# Altium footprint library SignalCommunications.PCBLIB: 466 footprints (part 5 of 30)
Each footprint in its own frame and in the unit in brackets; x right, y up, seen from the top. Pads: shape width x height; smd on the part's side, far side on the other; paste and mask are expansions set on the pad; w line width, h text height; cw(c..) or ccw(c..) is an arc to the next point about the centre after c.
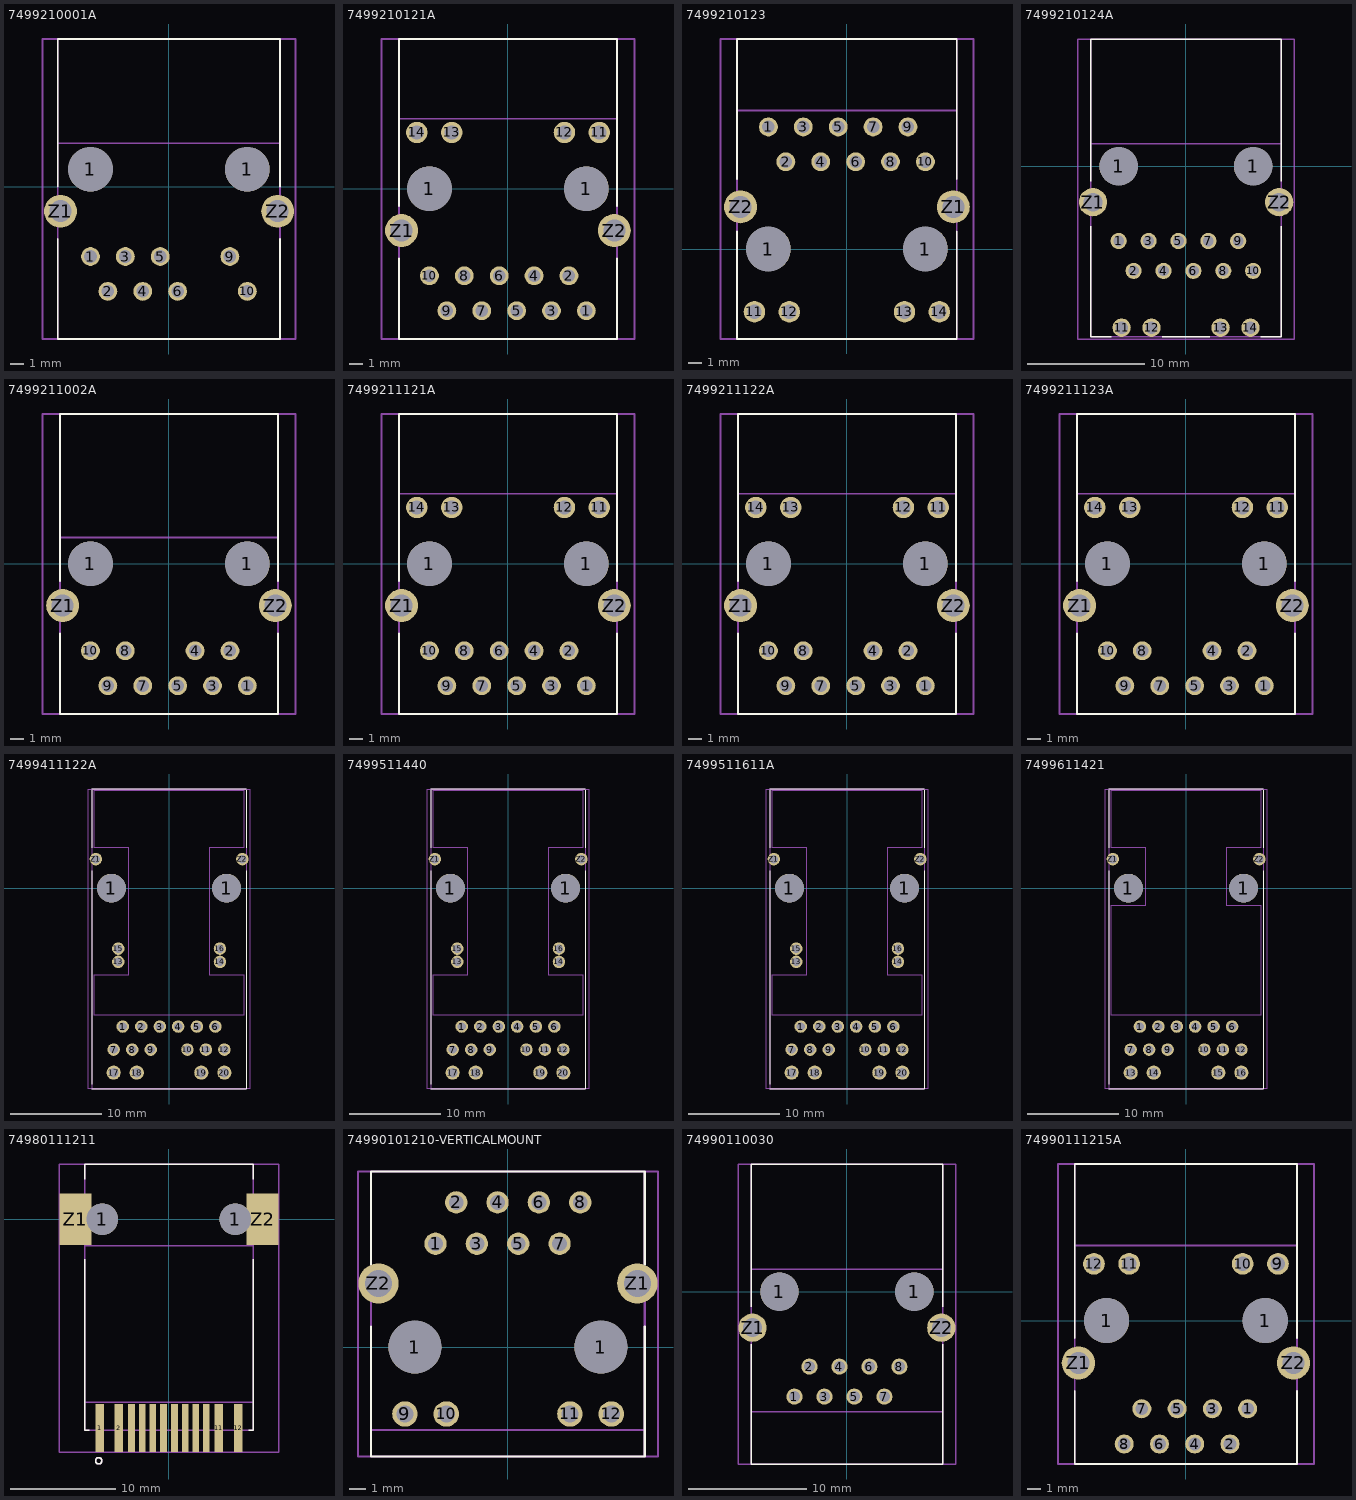
[diagram p4: the footprints below, top view; thin cyan lines are the x and y axes]

## 7499210001A [mil]
pads (12):
  round 54 hole 36: 1(-225,-200) 2(-175,-300) 3(-125,-200) 4(-75,-300) 5(-25,-200) 6(25,-300) 9(175,-200) 10(225,-300)
  round 128 hole 128: 1(-225,50) 1(225,50)
  round 94.5 hole 63: Z1(-311.02,-70.08) Z2(312,-70.08)
Top Overlay:
  lines w5: -318.9,-150 -318.9,-436.61 319,-436.61 319,-150 ; -318.9,0 -318.9,424 319,424 319,0
Mechanical 10:
  lines w5: -318.9,125 -318.9,424 319,424 319,125 -318.9,125
Mechanical 16:
  lines w5: -318.9,-436.61 -318.9,424 319,424 319,-436.61 -318.9,-436.61
  text "1" at -275,-175 h37.2
  text "9" at 225,-175 h37.2
  text "10" at 250,-350 h37.2
  text "2" at -225,-350 h37.2
Mechanical 27:
  lines w5: -362.5,-436.61 363,-436.61 363,424 -362.5,424 -362.5,-436.61

## 7499210121A [mil]
pads (18):
  round 128 hole 128: 1(-225,0) 1(225,0)
  round 54 hole 36: 1(225,-350) 2(175,-250) 3(125,-350) 4(75,-250) 5(25,-350) 6(-25,-250) 7(-75,-350) 8(-125,-250) 9(-175,-350) 10(-225,-250)
  round 61.5 hole 41: 11(262,161) 12(162,161) 13(-161.02,161) 14(-261.02,161)
  round 94.5 hole 63: Z1(-304.92,-120.08) Z2(305,-120.08)
Top Overlay:
  lines w5: -312.6,-200 -312.6,-431.1 313,-431.1 313,-200 ; -312.6,-50 -312.6,429 313,429 313,-50
Mechanical 10:
  lines w5: -312.6,200 -312.6,429 313,429 313,200 -312.6,200
Mechanical 16:
  lines w5: -312.6,-431.1 -312.6,429 313,429 313,-431.1 -312.6,-431.1
  text "1" at 250,-325 h49.6
  text "10" at -300,-225 h49.6
Mechanical 27:
  lines w5: -362.5,-431.1 363,-431.1 363,429 -362.5,429 -362.5,-431.1

## 7499210123 [mil]
pads (18):
  round 128 hole 128: 1(-225,0) 1(225,0)
  round 54 hole 36: 1(-225,350) 2(-175,250) 3(-125,350) 4(-75,250) 5(-25,350) 6(25,250) 7(75,350) 8(125,250) 9(175,350) 10(225,250)
  round 61.5 hole 41: 11(-264.96,-179.92) 12(-164.96,-179.92) 13(165,-179.92) 14(265,-179.92)
  round 94.5 hole 63: Z1(305,121) Z2(-304.92,121)
Top Overlay:
  lines w5: -314.96,50 -314.96,-257.87 315,-257.87 315,50 ; -314.96,200 -314.96,602 315,602 315,200
Mechanical 10:
  lines w5: -314.96,397 -314.96,602 315,602 315,397 -314.96,397
Mechanical 16:
  lines w5: -314.96,-257.87 -314.96,602 315,602 315,-257.87 -314.96,-257.87
  text "1" at -250,325 h49.6
  text "10" at 300,225 h49.6
Mechanical 27:
  lines w5: -362.5,-257.87 363,-257.87 363,602 -362.5,602 -362.5,-257.87

## 7499210124A [mil]
pads (18):
  round 54 hole 36: 1(-225,-250) 2(-175,-350) 3(-125,-250) 4(-75,-350) 5(-25,-250) 6(25,-350) 7(75,-250) 8(125,-350) 9(175,-250) 10(225,-350)
  round 128 hole 128: 1(-225,0) 1(225,0)
  round 61.5 hole 41: 11(-215.16,-540.16) 12(-115.16,-540.16) 13(116,-540.16) 14(216,-540.16)
  round 94.5 hole 63: Z1(-311.02,-120.08) Z2(312,-120.08)
Top Overlay:
  lines w5: -318.9,-200 -318.9,-570.87 -250,-570.87 ; -318.9,-50 -318.9,426 319,426 319,-50 ; -78.74,-570.87 79,-570.87 ; 250,-570.87 319,-570.87 319,-200
Mechanical 10:
  lines w5: -318.9,75 -318.9,426 319,426 319,75 -318.9,75
Mechanical 16:
  lines w5: -318.9,-570.87 -318.9,426 319,426 319,-570.87 -318.9,-570.87
  text "1" at -275,-250 h37.2
  text "9" at 225,-225 h37.2
  text "10" at 250,-400 h37.2
  text "2" at -225,-400 h37.2
Mechanical 27:
  lines w5: -325,425 -318.9,426 ; -362.5,-578.05 363,-578.05 363,426 -362.5,426 -362.5,-578.05

## 7499211002A [mil]
pads (13):
  round 128 hole 128: 1(-225,0) 1(225,0)
  round 54 hole 36: 1(225,-350) 2(175,-250) 3(125,-350) 4(75,-250) 5(25,-350) 7(-75,-350) 8(-125,-250) 9(-175,-350) 10(-225,-250)
  round 94.5 hole 63: Z1(-304.72,-120.08) Z2(305,-120.08)
Top Overlay:
  lines w5: -312.6,-200 -312.6,-431.1 313,-431.1 313,-200 ; -312.6,-50 -312.6,429 313,429 313,-50
Mechanical 10:
  lines w5: -312.6,75 -312.6,429 313,429 313,75 -312.6,75
Mechanical 16:
  lines w5: -312.6,-431.1 -312.6,429 313,429 313,-431.1 -312.6,-431.1
  text "1" at 275,-325 h49.6
  text "10" at -300,-225 h49.6
Mechanical 27:
  lines w5: -362.5,-431.1 363,-431.1 363,429 -362.5,429 -362.5,-431.1

## 7499211121A [mil]
pads (18):
  round 128 hole 128: 1(-225,0) 1(225,0)
  round 54 hole 36: 1(225,-350) 2(175,-250) 3(125,-350) 4(75,-250) 5(25,-350) 6(-25,-250) 7(-75,-350) 8(-125,-250) 9(-175,-350) 10(-225,-250)
  round 61.5 hole 41: 11(262,161) 12(162,161) 13(-161.02,161) 14(-261.02,161)
  round 94.5 hole 63: Z1(-304.92,-120.08) Z2(305,-120.08)
Top Overlay:
  lines w5: -312.6,-200 -312.6,-431.1 313,-431.1 313,-200 ; -312.6,-50 -312.6,429 313,429 313,-50
Mechanical 10:
  lines w5: -312.6,200 -312.6,429 313,429 313,200 -312.6,200
Mechanical 16:
  lines w5: -312.6,-431.1 -312.6,429 313,429 313,-431.1 -312.6,-431.1
  text "1" at 250,-325 h49.6
  text "10" at -300,-225 h49.6
Mechanical 27:
  lines w5: -362.5,-431.1 363,-431.1 363,429 -362.5,429 -362.5,-431.1

## 7499211122A [mil]
pads (17):
  round 128 hole 128: 1(-225,0) 1(225,0)
  round 54 hole 36: 1(225,-350) 2(175,-250) 3(125,-350) 4(75,-250) 5(25,-350) 7(-75,-350) 8(-125,-250) 9(-175,-350) 10(-225,-250)
  round 61.5 hole 41: 11(262,161) 12(162,161) 13(-161.02,161) 14(-261.02,161)
  round 94.5 hole 63: Z1(-304.92,-120.08) Z2(305,-120.08)
Top Overlay:
  lines w5: -312.6,-200 -312.6,-431.1 313,-431.1 313,-200 ; -312.6,-50 -312.6,429 313,429 313,-50
Mechanical 10:
  lines w5: -312.6,200 -312.6,429 313,429 313,200 -312.6,200
Mechanical 16:
  lines w5: -312.6,-431.1 -312.6,429 313,429 313,-431.1 -312.6,-431.1
  text "1" at 250,-325 h49.6
  text "10" at -300,-225 h49.6
Mechanical 27:
  lines w5: -362.5,-431.1 363,-431.1 363,429 -362.5,429 -362.5,-431.1

## 7499211123A [mil]
pads (17):
  round 128 hole 128: 1(-225,0) 1(225,0)
  round 54 hole 36: 1(225,-350) 2(175,-250) 3(125,-350) 4(75,-250) 5(25,-350) 7(-75,-350) 8(-125,-250) 9(-175,-350) 10(-225,-250)
  round 61.5 hole 41: 11(262,161) 12(162,161) 13(-161.02,161) 14(-261.02,161)
  round 94.5 hole 63: Z1(-304.92,-120.08) Z2(305,-120.08)
Top Overlay:
  lines w5: -312.6,-200 -312.6,-431.1 313,-431.1 313,-200 ; -312.6,-50 -312.6,429 313,429 313,-50
Mechanical 10:
  lines w5: -312.6,200 -312.6,429 313,429 313,200 -312.6,200
Mechanical 16:
  lines w5: -312.6,-431.1 -312.6,429 313,429 313,-431.1 -312.6,-431.1
  text "1" at 250,-325 h49.6
  text "10" at -300,-225 h49.6
Mechanical 27:
  lines w5: -362.5,-431.1 363,-431.1 363,429 -362.5,429 -362.5,-431.1

## 7499411122A [mil]
pads (24):
  round 125 hole 125: 1(-250,0) 1(250,0)
  round 54 hole 36: 1(-200.59,-600) 2(-120.28,-600) 3(-39.96,-600) 4(40,-600) 5(121,-600) 6(201,-600) 7(-239.76,-700) 8(-159.45,-700) 9(-79.13,-700) 10(80,-700) 11(160,-700) 12(240,-700) 13(-220.08,-319.69) 14(221,-319.69) 15(-220.08,-262.2) 16(221,-262.2) Z1(-317.52,126) Z2(318,126)
  round 61.5 hole 41: 17(-239.96,-800) 18(-139.96,-800) 19(140,-800) 20(240,-800)
Top Overlay:
  lines w5: -334.65,-870.87 335,-870.87 335,75 ; -334.65,-850 -334.65,75 ; -334.65,175 -334.65,425 ; -334.65,430 335,430 ; 335,175 335,425
Mechanical 10:
  lines w5: -325,-550 325,-550 325,-375 175,-375 175,175 325,175 325,425 -325,425 -325,175 -175,175 -175,-375 -325,-375 -325,-550
Mechanical 16:
  lines w5: -334.65,-870.87 -334.65,430 335,430 335,-870.87 -334.65,-870.87
  text "1" at -250,-575 h62
  text "6" at 250,-575 h62
  text "7" at -275,-650 h62
  text "12" at 300,-650 h62
  text "15" at -275,-200 h62
  text "16" at 275,-225 h62
Mechanical 27:
  lines w5: -350,-870.87 350,-870.87 350,430 -350,430 -350,-870.87

## 7499511440 [mil]
pads (24):
  round 125 hole 125: 1(-250,0) 1(250,0)
  round 54 hole 36: 1(-200.59,-600) 2(-120.28,-600) 3(-39.96,-600) 4(40,-600) 5(121,-600) 6(201,-600) 7(-239.76,-700) 8(-159.45,-700) 9(-79.13,-700) 10(80,-700) 11(160,-700) 12(240,-700) 13(-220.08,-319.69) 14(221,-319.69) 15(-220.08,-262.2) 16(221,-262.2) Z1(-317.52,126) Z2(318,126)
  round 61.5 hole 41: 17(-239.96,-800) 18(-139.96,-800) 19(140,-800) 20(240,-800)
Top Overlay:
  lines w5: -334.65,-870.87 335,-870.87 335,75 ; -334.65,-850 -334.65,75 ; -334.65,175 -334.65,425 ; -334.65,430 335,430 ; 335,175 335,425
Mechanical 10:
  lines w5: -325,-550 325,-550 325,-375 175,-375 175,175 325,175 325,425 -325,425 -325,175 -175,175 -175,-375 -325,-375 -325,-550
Mechanical 16:
  lines w5: -334.65,-870.87 -334.65,430 335,430 335,-870.87 -334.65,-870.87
  text "1" at -250,-575 h62
  text "6" at 250,-575 h62
  text "7" at -275,-650 h62
  text "12" at 300,-650 h62
  text "15" at -275,-200 h62
  text "16" at 275,-225 h62
Mechanical 27:
  lines w5: -350,-870.87 350,-870.87 350,430 -350,430 -350,-870.87

## 7499511611A [mil]
pads (24):
  round 125 hole 125: 1(-250,0) 1(250,0)
  round 54 hole 36: 1(-200.59,-600) 2(-120.28,-600) 3(-39.96,-600) 4(40,-600) 5(121,-600) 6(201,-600) 7(-239.76,-700) 8(-159.45,-700) 9(-79.13,-700) 10(80,-700) 11(160,-700) 12(240,-700) 13(-220.08,-319.69) 14(221,-319.69) 15(-220.08,-262.2) 16(221,-262.2) Z1(-317.52,126) Z2(318,126)
  round 61.5 hole 41: 17(-239.96,-800) 18(-139.96,-800) 19(140,-800) 20(240,-800)
Top Overlay:
  lines w5: -334.65,-870.87 335,-870.87 335,75 ; -334.65,-850 -334.65,75 ; -334.65,175 -334.65,425 ; -334.65,430 335,430 ; 335,175 335,425
Mechanical 10:
  lines w5: -325,-550 325,-550 325,-375 175,-375 175,175 325,175 325,425 -325,425 -325,175 -175,175 -175,-375 -325,-375 -325,-550
Mechanical 16:
  lines w5: -334.65,-870.87 -334.65,430 335,430 335,-870.87 -334.65,-870.87
  text "1" at -250,-575 h62
  text "6" at 250,-575 h62
  text "7" at -275,-650 h62
  text "12" at 300,-650 h62
  text "15" at -275,-200 h62
  text "16" at 275,-225 h62
Mechanical 27:
  lines w5: -350,-870.87 350,-870.87 350,430 -350,430 -350,-870.87

## 7499611421 [mil]
pads (20):
  round 125 hole 125: 1(-250,0) 1(250,0)
  round 54 hole 36: 1(-199.8,-600) 2(-119.88,-600) 3(-39.96,-600) 4(40,-600) 5(120,-600) 6(200,-600) 7(-239.96,-700) 8(-159.65,-700) 9(-79.72,-700) 10(80,-700) 11(160,-700) 12(240,-700) Z1(-317.52,126) Z2(318,126)
  round 61.5 hole 41: 13(-239.76,-800) 14(-139.76,-800) 15(140,-800) 16(240,-800)
Top Overlay:
  lines w5: -334.65,-870.87 335,-870.87 335,75 ; -334.65,-850 -334.65,75 ; -334.65,175 -334.65,425 ; -334.65,430 335,430 ; 335,175 335,425
Mechanical 10:
  lines w5: -325,-550 325,-550 325,-75 175,-75 175,175 325,175 325,425 -325,425 -325,175 -175,175 -175,-75 -325,-75 -325,-550
Mechanical 16:
  lines w5: -334.65,-870.87 -334.65,430 335,430 335,-870.87 -334.65,-870.87
  text "1" at -250,-575 h62
  text "6" at 250,-575 h62
  text "7" at -275,-650 h62
  text "12" at 300,-650 h62
Mechanical 27:
  lines w5: -350,-870.87 350,-870.87 350,430 -350,430 -350,-870.87

## 74980111211 [mil]
pads (16):
  rect 32x182 smd: 1(-260.24,-784.25) 2(-187.8,-784.25) 11(188,-784.25) 12(261,-784.25)
  round 119 hole 119: 1(-250,0) 1(250,0)
  rect 25x182 smd: 3(-140.55,-784.25) 4(-100.39,-784.25) 5(-60.24,-784.25) 6(-20.08,-784.25) 7(21,-784.25) 8(61,-784.25) 9(101,-784.25) 10(141,-784.25)
  rect 119x193 smd: Z1(-351.18,0) Z2(352,0)
Top Overlay:
  circle w5: c-263.78,-907.48 r12
  lines w5: -316.93,-150 -316.93,-792.13 -300,-792.13 ; -316.93,150 -316.93,208 317,208 317,150 ; 300,-792.13 317,-792.13 317,-150
Mechanical 10:
  lines w5: -316.93,-687.5 317,-687.5 317,-100 -316.93,-100 -316.93,-687.5
Mechanical 16:
  circle w5: c-263.78,-907.48 r12
  lines w5: -316.93,-792.13 -316.93,208 317,208 317,-792.13 -316.93,-792.13
Mechanical 27:
  lines w5: -412.5,-875 413,-875 413,208 -412.5,208 -412.5,-875

## 74990101210-VERTICALMOUNT [mil]
pads (16):
  round 128 hole 128: 1(-225,0) 1(225,0)
  round 54 hole 36: 1(-175,250) 2(-125,350) 3(-75,250) 4(-25,350) 5(25,250) 6(75,350) 7(125,250) 8(175,350)
  round 61.5 hole 41: 9(-249.02,-161.81) 10(-149.02,-161.81) 11(150,-161.81) 12(250,-161.81)
  round 97.5 hole 65: Z1(313,154) Z2(-312.99,154)
Top Overlay:
  lines w5: -330.71,50 -330.71,-264.96 331,-264.96 331,50 ; -330.71,200 -330.71,425 331,425 331,200
Mechanical 10:
  lines w5: -330.71,-264.96 331,-264.96 331,-200 -330.71,-200 -330.71,-264.96
Mechanical 16:
  lines w5: -330.71,-264.96 331,-264.96 331,425 -330.71,425 -330.71,-264.96
  text "1" at -225,250 h49.6
  text "8" at 250,375 h49.6
Mechanical 27:
  lines w5: -362.5,-264.96 363,-264.96 363,425 -362.5,425 -362.5,-264.96

## 74990110030 [mil]
pads (12):
  round 128 hole 128: 1(-225,0) 1(225,0)
  round 54 hole 36: 1(-175,-350) 2(-125,-250) 3(-75,-350) 4(-25,-250) 5(25,-350) 6(75,-250) 7(125,-350) 8(175,-250)
  round 94.5 hole 63: Z1(-314.96,-120.08) Z2(315,-120.08)
Top Overlay:
  lines w5: -319.88,-175 -319.88,-574.8 320,-574.8 320,-175 ; -319.88,-50 -319.88,426 320,426 320,-50
Mechanical 10:
  lines w5: -319.88,-574.8 320,-574.8 320,-400 -319.88,-400 -319.88,-574.8 ; -318.9,75 319,75 319,425 -318.9,425 -318.9,75
Mechanical 16:
  lines w5: -319.88,-574.8 -319.88,426 320,426 320,-574.8 -319.88,-574.8
  text "1" at -225,-350 h49.6
  text "8" at 250,-225 h49.6
Mechanical 27:
  lines w5: -362.5,-574.8 363,-574.8 363,425 -362.5,425 -362.5,-574.8

## 74990111215A [mil]
pads (16):
  round 128 hole 128: 1(-225,0) 1(225,0)
  round 54 hole 36: 1(175,-250) 2(125,-350) 3(75,-250) 4(25,-350) 5(-25,-250) 6(-75,-350) 7(-125,-250) 8(-175,-350)
  round 61.5 hole 41: 9(261,161) 10(161,161) 11(-160.83,161) 12(-260.83,161)
  round 94.5 hole 63: Z1(-304.92,-120.08) Z2(305,-120.08)
Top Overlay:
  lines w5: -314.96,-200 -314.96,-406.69 315,-406.69 315,-200 ; -314.96,-50 -314.96,444 315,444 315,-50
Mechanical 10:
  lines w5: -314.96,213 -314.96,444 315,444 315,213 -314.96,213
Mechanical 16:
  lines w5: -314.96,-406.69 315,-406.69 315,444 -314.96,444 -314.96,-406.69
  text "1" at 250,-225 h49.6
  text "8" at -225,-350 h49.6
Mechanical 27:
  lines w5: -362.5,-406.69 363,-406.69 363,444 -362.5,444 -362.5,-406.69